# Altium footprint library DPAK4P254_1419X457L172X129T635X508N.PcbLib: 2 footprints
Each footprint in its own frame and in the unit in brackets; x right, y up, seen from the top. Pads: shape width x height; smd on the part's side, far side on the other; paste and mask are expansions set on the pad; w line width, h text height; cw(c..) or ccw(c..) is an arc to the next point about the centre after c.
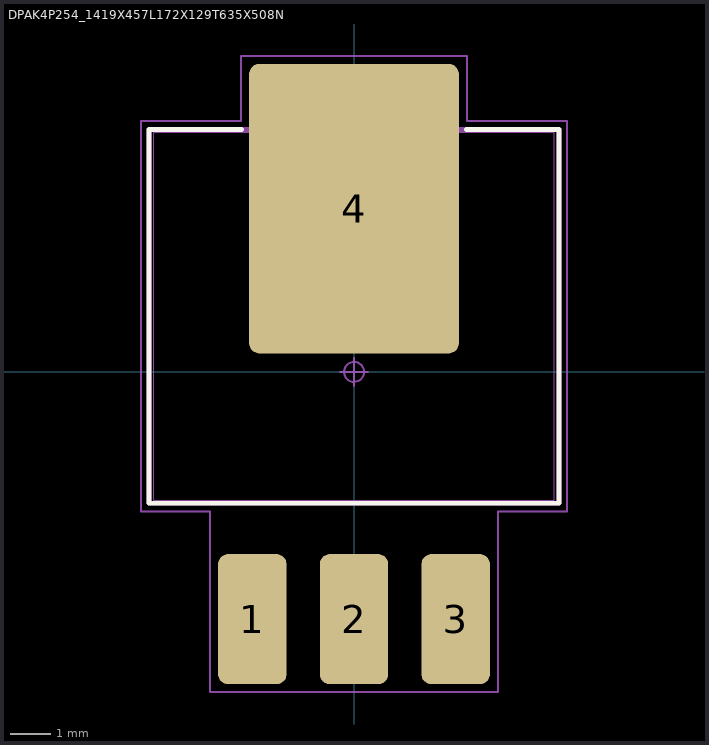
[diagram p0: the footprints below, top view; thin cyan lines are the x and y axes]

## DPAK4P254_1419X457L172X129T635X508N [mm] "DPAK, 2.54 mm pitch; 3 pin, 9.195 mm L X 10.02 mm W X 4.572 mm H body"
height 4.572
pads (4):
  rrect29% 1.71x3.25 smd: 1(-2.54,-6.18) 2(0,-6.18) 3(2.54,-6.18)
  rrect10% 5.25x7.24 smd paste-7.24: 4(0,4.08)
Top Overlay:
  lines w0.12: -2.805,6.058 -5.12,6.058 -5.12,-3.282 5.12,-3.282 5.12,6.058 2.805,6.058
Top Paste:
  region: -0.53,6.155 -2.1,6.155 -2.1,7.435 -0.53,7.435
  region: -0.53,4.345 -2.1,4.345 -2.1,5.625 -0.53,5.625
  region: -0.53,2.535 -2.1,2.535 -2.1,3.815 -0.53,3.815
  region: -0.53,0.725 -2.1,0.725 -2.1,2.005 -0.53,2.005
  region: 2.1,6.155 0.53,6.155 0.53,7.435 2.1,7.435
  region: 2.1,4.345 0.53,4.345 0.53,5.625 2.1,5.625
  region: 2.1,2.535 0.53,2.535 0.53,3.815 2.1,3.815
  region: 2.1,0.725 0.53,0.725 0.53,2.005 2.1,2.005
Mechanical 3:
  lines w0.12: -5.12,-3.282 -5.12,6.058 5.12,6.058 5.12,-3.282 -5.12,-3.282
Mechanical 5:
  lines w0.025: -5.01,-3.21 5.01,-3.21 5.01,5.985 -5.01,5.985 -5.01,-3.21 ; -3.187,-7.1 -3.187,-5.372 -1.893,-5.372 -1.893,-7.1 -3.187,-7.1 ; -2.54,0.75 -2.54,7.1 2.54,7.1 2.54,0.75 -2.54,0.75 ; -0.647,-7.1 -0.647,-5.372 0.647,-5.372 0.647,-7.1 -0.647,-7.1 ; 1.893,-7.1 1.893,-5.372 3.187,-5.372 3.187,-7.1 1.893,-7.1
Mechanical 7:
  circle w0.05: c0,0 r0.25
  lines w0.05: -0.35,0 0.35,0 ; 0,-0.35 0,0.35 ; -5.32,-3.49 -3.595,-3.49 -3.595,-8.005 3.595,-8.005 3.595,-3.49 5.32,-3.49 5.32,6.27 2.825,6.27 2.825,7.9 -2.825,7.9 -2.825,6.27 -5.32,6.27 -5.32,-3.49
3D body "DPAK4P254_1419X457L172X129T635X508.STEP": height 4.57, standoff 0, extent -5.01,-7.1 5.01,7.1

## PCBComponent_1 [mm]